# Altium integrated library TI Data Converters Analog to Digital Converter.IntLib: 2197 symbols (part 162 of 168)
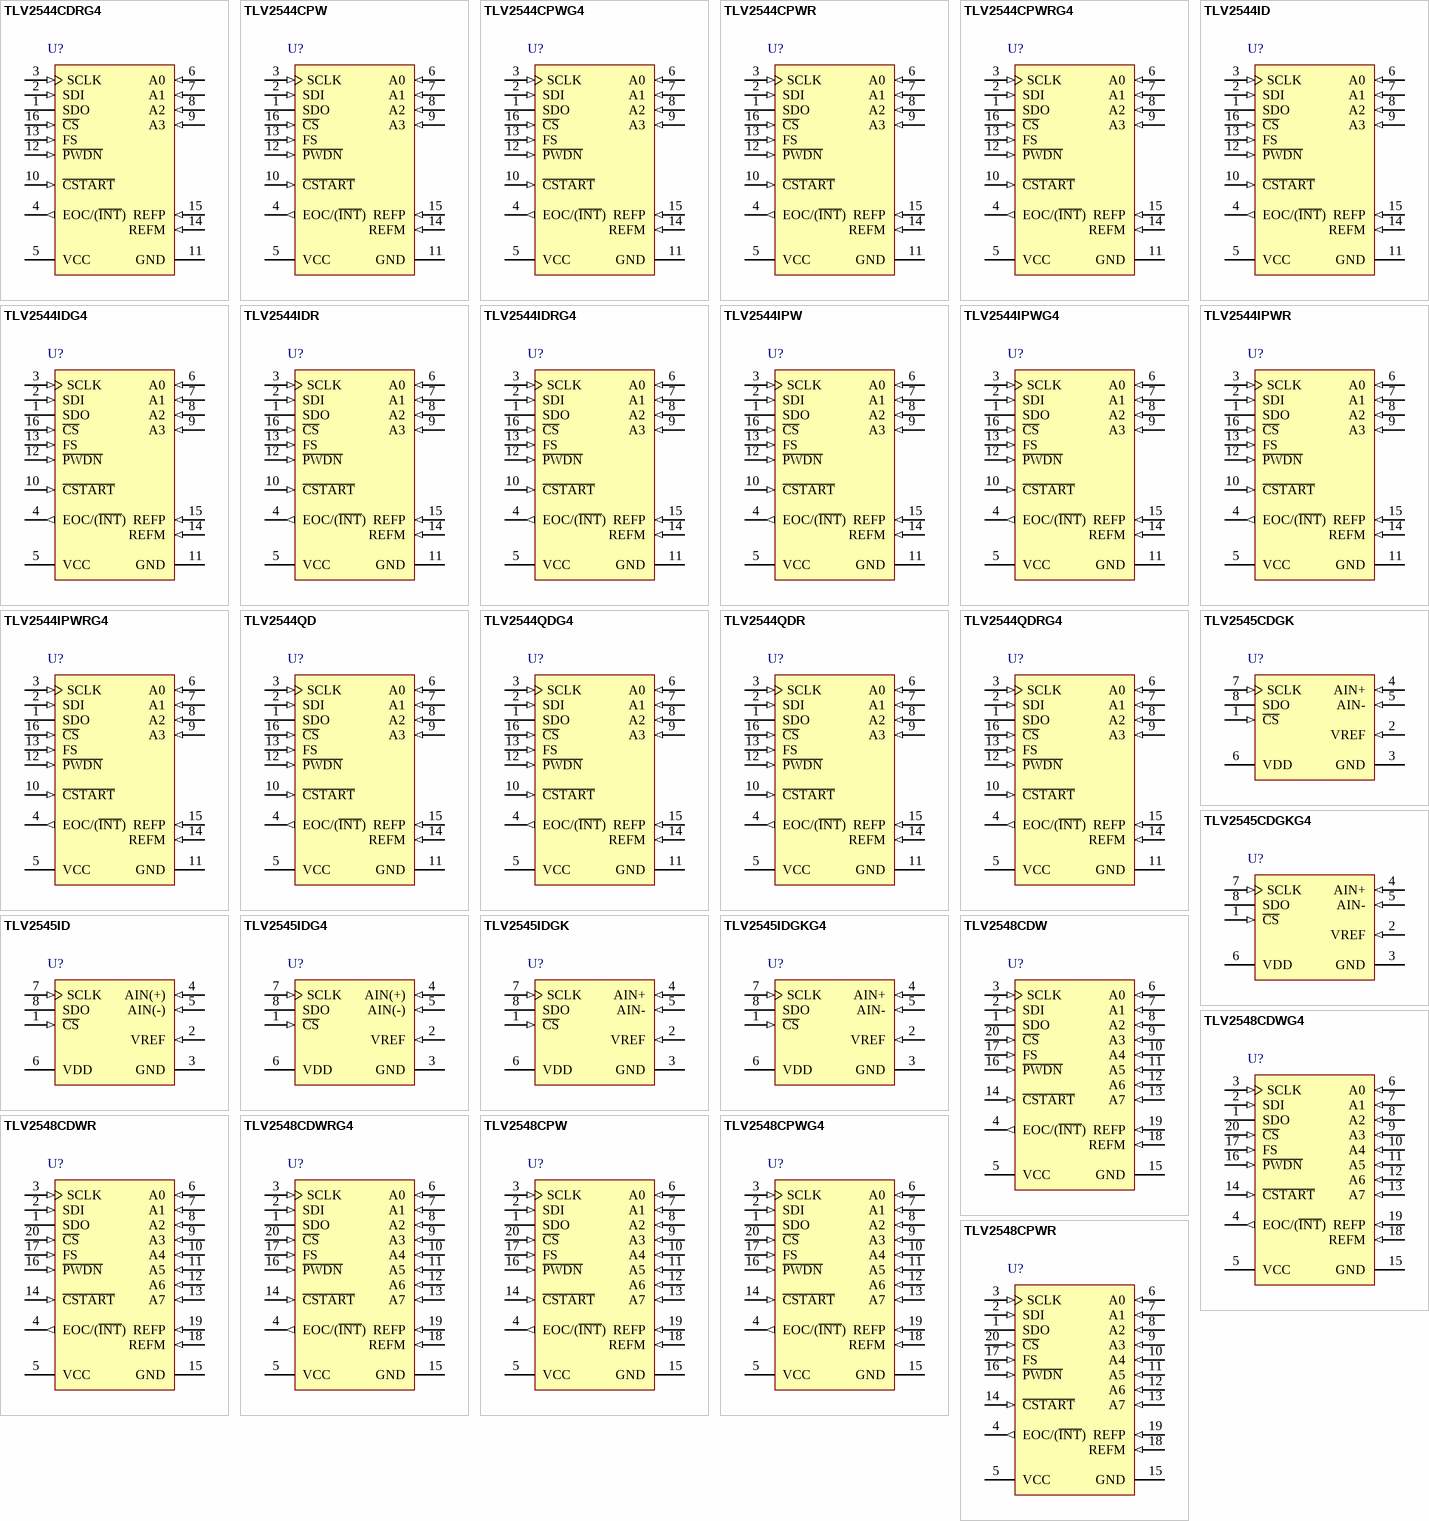
[diagram p287: symbols TLV2544CDRG4 to TLV2548CPWR]

## TLV2544CPWRG4
designator U?
12-Bit 200 kSPS ADC Serial Out, Auto Power Down (Software and Hardware), Low Power with 8 x FIFO with 4 Channel, 0 to 70 degC, 16-pin SOP (PW16), Green (RoHS & no Sb/Br); Manufacturer: Texas Instruments; PartNumber: TLV2544CPWRG4; # Input Channels: 4; Analog Voltage AV/DD(Max)(V): 5.5; Analog Voltage AV/DD(Min)(V): 2.7; Architecture: SAR; ENOB(Bits): 11.6; INL(Max)(+/-LSB): 1; Interface: Serial SPI; Resolution(Bits): 12; Sample Rate (max)(SPS): 200k; SFDR(dB): 84; SINAD(dB): 70; SubFamily: Precision ADC (<=10MSPS); DatasheetVersion: SLAS198E; PackageVersion: 4040064-4/G, 02/2011; PackageReference: PW16; PackageDescription: 16-Pin Plastic Small Outline, Body 5 x 4.4 mm, Pitch 0.65 mm; Supplier 1: Digi-Key; Supplier Part Number 1: ADS42B49IRGCR-ND; Supplier 2: Newark; Supplier Part Number 2: 55W5781; Supplier 3: Mouser; Supplier Part Number 3: 595-ADS42B49IRGCR; Digital Supply(Max)(V): 5.5; Digital Supply(Min)(V): 2.7; Eco-Plan: Green (RoHS & no Sb/Br); Mounting Technology: Surface Mount; Code_JEDEC: MO-153; ComponentLink1Description: Manufacturer URL; ComponentLink1URL: http://www.ti.com/; ComponentLink2Description: Datasheet; ComponentLink2URL: http://www.ti.com/general/docs/lit/getliterature.tsp?genericPartNumber=TLV2544&fileType=pdf; ComponentLink3Description: Package Specification; ComponentLink3URL: http://www.ti.com/lit/ml/mpds361/mpds361.pdf
footprint TI-PW16_N (SOP, 16-Leads, Body 5x4.4mm, Pitch 0.65mm, IPC Medium Density)
footprint TI-PW16_L (SOP, 16-Leads, Body 5x4.4mm, Pitch 0.65mm, IPC High Density)
footprint TI-PW16_M (SOP, 16-Leads, Body 5x4.4mm, Pitch 0.65mm, IPC Low Density)
pins: 1 SDO (hiz) "The 3-state serial output for the A/D conversion result.", 2 SDI (in) "Serial data input.", 3 SCLK (in) "Input serial clock.", 4 EOC/(~{INT}) (out) "End of conversion or interrupt to host processor.", 5 VCC (power) "Positive supply voltage.", 6 A0 (in) "Analog signal inputs.", 7 A1 (in) "Analog signal inputs.", 8 A2 (in) "Analog signal inputs.", 9 A3 (in) "Analog signal inputs.", 10 ~{CSTART} (in) "This terminal controls the start of sampling of the analog input from a selected multiplex channel.", 11 GND (power) "Ground return for the internal circuitry.", 12 ~{PWDN} (in) "Both analog and reference circuits are powered down when this pin is at logic zero.", 13 FS (in) "DSP frame sync input. Indication of the start of a serial data frame in or out of the device.", 14 REFM (in) "External reference input or internal reference decoupling.", 15 REFP (in) "External reference input or internal reference decoupling.", 16 ~{CS} (in) "Chip select."

## TLV2544ID
designator U?
12-Bit 200 kSPS ADC Serial Out, Auto Power Down (Software and Hardware), Low Power with 8 x FIFO with 4 Channel, -40 to 85 degC, 16-pin SOIC (D16), Green (RoHS & no Sb/Br); Manufacturer: Texas Instruments; PartNumber: TLV2544ID; # Input Channels: 4; Analog Voltage AV/DD(Max)(V): 5.5; Analog Voltage AV/DD(Min)(V): 2.7; Architecture: SAR; ENOB(Bits): 11.6; INL(Max)(+/-LSB): 1; Interface: Serial SPI; Resolution(Bits): 12; Sample Rate (max)(SPS): 200k; SFDR(dB): 84; SINAD(dB): 70; SubFamily: Precision ADC (<=10MSPS); DatasheetVersion: SLAS198E; PackageVersion: 4040047-6/M, 06/2011; PackageReference: D16; PackageDescription: 16-Pin Plastic Small Outline, Body 9.9 x 3.9 mm, Pitch 1.27 mm; Supplier 1: Digi-Key; Supplier Part Number 1: ADS4449IZCR-ND; Supplier 2: Newark; Supplier Part Number 2: 87W7681; Supplier 3: Mouser; Supplier Part Number 3: 595-ADS4449IZCR; Digital Supply(Max)(V): 5.5; Digital Supply(Min)(V): 2.7; Eco-Plan: Green (RoHS & no Sb/Br); Mounting Technology: Surface Mount; Code_JEDEC: MS-012; ComponentLink1Description: Manufacturer URL; ComponentLink1URL: http://www.ti.com/; ComponentLink2Description: Datasheet; ComponentLink2URL: http://www.ti.com/general/docs/lit/getliterature.tsp?genericPartNumber=TLV2544&fileType=pdf; ComponentLink3Description: Package Specification; ComponentLink3URL: http://www.ti.com/litv/pdf/mpds178g
footprint TI-D16_N (SOIC, 16-Leads, Body 9.9x3.9mm, Pitch 1.27mm, IPC Medium Density)
footprint TI-D16_L (SOIC, 16-Leads, Body 9.9x3.9mm, Pitch 1.27mm, IPC High Density)
footprint TI-D16_M (SOIC, 16-Leads, Body 9.9x3.9mm, Pitch 1.27mm, IPC Low Density)
pins: 1 SDO (hiz) "The 3-state serial output for the A/D conversion result.", 2 SDI (in) "Serial data input.", 3 SCLK (in) "Input serial clock.", 4 EOC/(~{INT}) (out) "End of conversion or interrupt to host processor.", 5 VCC (power) "Positive supply voltage.", 6 A0 (in) "Analog signal inputs.", 7 A1 (in) "Analog signal inputs.", 8 A2 (in) "Analog signal inputs.", 9 A3 (in) "Analog signal inputs.", 10 ~{CSTART} (in) "This terminal controls the start of sampling of the analog input from a selected multiplex channel.", 11 GND (power) "Ground return for the internal circuitry.", 12 ~{PWDN} (in) "Both analog and reference circuits are powered down when this pin is at logic zero.", 13 FS (in) "DSP frame sync input. Indication of the start of a serial data frame in or out of the device.", 14 REFM (in) "External reference input or internal reference decoupling.", 15 REFP (in) "External reference input or internal reference decoupling.", 16 ~{CS} (in) "Chip select."

## TLV2544IDG4
designator U?
12-Bit 200 kSPS ADC Serial Out, Auto Power Down (Software and Hardware), Low Power with 8 x FIFO with 4 Channel, -40 to 85 degC, 16-pin SOIC (D16), Green (RoHS & no Sb/Br); Manufacturer: Texas Instruments; PartNumber: TLV2544IDG4; # Input Channels: 4; Analog Voltage AV/DD(Max)(V): 5.5; Analog Voltage AV/DD(Min)(V): 2.7; Architecture: SAR; ENOB(Bits): 11.6; INL(Max)(+/-LSB): 1; Interface: Serial SPI; Resolution(Bits): 12; Sample Rate (max)(SPS): 200k; SFDR(dB): 84; SINAD(dB): 70; SubFamily: Precision ADC (<=10MSPS); DatasheetVersion: SLAS198E; PackageVersion: 4040047-6/M, 06/2011; PackageReference: D16; PackageDescription: 16-Pin Plastic Small Outline, Body 9.9 x 3.9 mm, Pitch 1.27 mm; Supplier 1: Newark; Supplier Part Number 1: 94W7370; Supplier 2: Mouser; Supplier Part Number 2: 595-ADS62P19IRGCR; Digital Supply(Max)(V): 5.5; Digital Supply(Min)(V): 2.7; Eco-Plan: Green (RoHS & no Sb/Br); Mounting Technology: Surface Mount; Code_JEDEC: MS-012; ComponentLink1Description: Manufacturer URL; ComponentLink1URL: http://www.ti.com/; ComponentLink2Description: Datasheet; ComponentLink2URL: http://www.ti.com/general/docs/lit/getliterature.tsp?genericPartNumber=TLV2544&fileType=pdf; ComponentLink3Description: Package Specification; ComponentLink3URL: http://www.ti.com/litv/pdf/mpds178g
footprint TI-D16_N (SOIC, 16-Leads, Body 9.9x3.9mm, Pitch 1.27mm, IPC Medium Density)
footprint TI-D16_L (SOIC, 16-Leads, Body 9.9x3.9mm, Pitch 1.27mm, IPC High Density)
footprint TI-D16_M (SOIC, 16-Leads, Body 9.9x3.9mm, Pitch 1.27mm, IPC Low Density)
pins: 1 SDO (hiz) "The 3-state serial output for the A/D conversion result.", 2 SDI (in) "Serial data input.", 3 SCLK (in) "Input serial clock.", 4 EOC/(~{INT}) (out) "End of conversion or interrupt to host processor.", 5 VCC (power) "Positive supply voltage.", 6 A0 (in) "Analog signal inputs.", 7 A1 (in) "Analog signal inputs.", 8 A2 (in) "Analog signal inputs.", 9 A3 (in) "Analog signal inputs.", 10 ~{CSTART} (in) "This terminal controls the start of sampling of the analog input from a selected multiplex channel.", 11 GND (power) "Ground return for the internal circuitry.", 12 ~{PWDN} (in) "Both analog and reference circuits are powered down when this pin is at logic zero.", 13 FS (in) "DSP frame sync input. Indication of the start of a serial data frame in or out of the device.", 14 REFM (in) "External reference input or internal reference decoupling.", 15 REFP (in) "External reference input or internal reference decoupling.", 16 ~{CS} (in) "Chip select."

## TLV2544IDR
designator U?
12-Bit 200 kSPS ADC Serial Out, Auto Power Down (Software and Hardware), Low Power with 8 x FIFO with 4 Channel, -40 to 85 degC, 16-pin SOIC (D16), Green (RoHS & no Sb/Br); Manufacturer: Texas Instruments; PartNumber: TLV2544IDR; # Input Channels: 4; Analog Voltage AV/DD(Max)(V): 5.5; Analog Voltage AV/DD(Min)(V): 2.7; Architecture: SAR; ENOB(Bits): 11.6; INL(Max)(+/-LSB): 1; Interface: Serial SPI; Resolution(Bits): 12; Sample Rate (max)(SPS): 200k; SFDR(dB): 84; SINAD(dB): 70; SubFamily: Precision ADC (<=10MSPS); DatasheetVersion: SLAS198E; PackageVersion: 4040047-6/M, 06/2011; PackageReference: D16; PackageDescription: 16-Pin Plastic Small Outline, Body 9.9 x 3.9 mm, Pitch 1.27 mm; Supplier 1: Digi-Key; Supplier Part Number 1: ADS62P19IRGCT-ND; Supplier 2: Newark; Supplier Part Number 2: 94W7371; Supplier 3: Mouser; Supplier Part Number 3: 595-ADS62P19IRGCT; Digital Supply(Max)(V): 5.5; Digital Supply(Min)(V): 2.7; Eco-Plan: Green (RoHS & no Sb/Br); Mounting Technology: Surface Mount; Code_JEDEC: MS-012; ComponentLink1Description: Manufacturer URL; ComponentLink1URL: http://www.ti.com/; ComponentLink2Description: Datasheet; ComponentLink2URL: http://www.ti.com/general/docs/lit/getliterature.tsp?genericPartNumber=TLV2544&fileType=pdf; ComponentLink3Description: Package Specification; ComponentLink3URL: http://www.ti.com/litv/pdf/mpds178g
footprint TI-D16_N (SOIC, 16-Leads, Body 9.9x3.9mm, Pitch 1.27mm, IPC Medium Density)
footprint TI-D16_L (SOIC, 16-Leads, Body 9.9x3.9mm, Pitch 1.27mm, IPC High Density)
footprint TI-D16_M (SOIC, 16-Leads, Body 9.9x3.9mm, Pitch 1.27mm, IPC Low Density)
pins: 1 SDO (hiz) "The 3-state serial output for the A/D conversion result.", 2 SDI (in) "Serial data input.", 3 SCLK (in) "Input serial clock.", 4 EOC/(~{INT}) (out) "End of conversion or interrupt to host processor.", 5 VCC (power) "Positive supply voltage.", 6 A0 (in) "Analog signal inputs.", 7 A1 (in) "Analog signal inputs.", 8 A2 (in) "Analog signal inputs.", 9 A3 (in) "Analog signal inputs.", 10 ~{CSTART} (in) "This terminal controls the start of sampling of the analog input from a selected multiplex channel.", 11 GND (power) "Ground return for the internal circuitry.", 12 ~{PWDN} (in) "Both analog and reference circuits are powered down when this pin is at logic zero.", 13 FS (in) "DSP frame sync input. Indication of the start of a serial data frame in or out of the device.", 14 REFM (in) "External reference input or internal reference decoupling.", 15 REFP (in) "External reference input or internal reference decoupling.", 16 ~{CS} (in) "Chip select."

## TLV2544IDRG4
designator U?
12-Bit 200 kSPS ADC Serial Out, Auto Power Down (Software and Hardware), Low Power with 8 x FIFO with 4 Channel, -40 to 85 degC, 16-pin SOIC (D16), Green (RoHS & no Sb/Br); Manufacturer: Texas Instruments; PartNumber: TLV2544IDRG4; # Input Channels: 4; Analog Voltage AV/DD(Max)(V): 5.5; Analog Voltage AV/DD(Min)(V): 2.7; Architecture: SAR; ENOB(Bits): 11.6; INL(Max)(+/-LSB): 1; Interface: Serial SPI; Resolution(Bits): 12; Sample Rate (max)(SPS): 200k; SFDR(dB): 84; SINAD(dB): 70; SubFamily: Precision ADC (<=10MSPS); DatasheetVersion: SLAS198E; PackageVersion: 4040047-6/M, 06/2011; PackageReference: D16; PackageDescription: 16-Pin Plastic Small Outline, Body 9.9 x 3.9 mm, Pitch 1.27 mm; Supplier 1: Digi-Key; Supplier Part Number 1: ADC104S021QIMMX/NOPB-ND; Supplier 2: Newark; Supplier Part Number 2: 05W7235; Supplier 3: Mouser; Supplier Part Number 3: 595-C104S021QIMMXNPB; Supplier 4: Mouser; Supplier Part Number 4: N/A; Digital Supply(Max)(V): 5.5; Digital Supply(Min)(V): 2.7; Eco-Plan: Green (RoHS & no Sb/Br); Mounting Technology: Surface Mount; Code_JEDEC: MS-012; ComponentLink1Description: Manufacturer URL; ComponentLink1URL: http://www.ti.com/; ComponentLink2Description: Datasheet; ComponentLink2URL: http://www.ti.com/general/docs/lit/getliterature.tsp?genericPartNumber=TLV2544&fileType=pdf; ComponentLink3Description: Package Specification; ComponentLink3URL: http://www.ti.com/litv/pdf/mpds178g
footprint TI-D16_N (SOIC, 16-Leads, Body 9.9x3.9mm, Pitch 1.27mm, IPC Medium Density)
footprint TI-D16_L (SOIC, 16-Leads, Body 9.9x3.9mm, Pitch 1.27mm, IPC High Density)
footprint TI-D16_M (SOIC, 16-Leads, Body 9.9x3.9mm, Pitch 1.27mm, IPC Low Density)
pins: 1 SDO (hiz) "The 3-state serial output for the A/D conversion result.", 2 SDI (in) "Serial data input.", 3 SCLK (in) "Input serial clock.", 4 EOC/(~{INT}) (out) "End of conversion or interrupt to host processor.", 5 VCC (power) "Positive supply voltage.", 6 A0 (in) "Analog signal inputs.", 7 A1 (in) "Analog signal inputs.", 8 A2 (in) "Analog signal inputs.", 9 A3 (in) "Analog signal inputs.", 10 ~{CSTART} (in) "This terminal controls the start of sampling of the analog input from a selected multiplex channel.", 11 GND (power) "Ground return for the internal circuitry.", 12 ~{PWDN} (in) "Both analog and reference circuits are powered down when this pin is at logic zero.", 13 FS (in) "DSP frame sync input. Indication of the start of a serial data frame in or out of the device.", 14 REFM (in) "External reference input or internal reference decoupling.", 15 REFP (in) "External reference input or internal reference decoupling.", 16 ~{CS} (in) "Chip select."

## TLV2544IPW
designator U?
12-Bit 200 kSPS ADC Serial Out, Auto Power Down (Software and Hardware), Low Power with 8 x FIFO with 4 Channel, -40 to 85 degC, 16-pin SOP (PW16), Green (RoHS & no Sb/Br); Manufacturer: Texas Instruments; PartNumber: TLV2544IPW; # Input Channels: 4; Analog Voltage AV/DD(Max)(V): 5.5; Analog Voltage AV/DD(Min)(V): 2.7; Architecture: SAR; ENOB(Bits): 11.6; INL(Max)(+/-LSB): 1; Interface: Serial SPI; Resolution(Bits): 12; Sample Rate (max)(SPS): 200k; SFDR(dB): 84; SINAD(dB): 70; SubFamily: Precision ADC (<=10MSPS); DatasheetVersion: SLAS198E; PackageVersion: 4040064-4/G, 02/2011; PackageReference: PW16; PackageDescription: 16-Pin Plastic Small Outline, Body 5 x 4.4 mm, Pitch 0.65 mm; Digital Supply(Max)(V): 5.5; Digital Supply(Min)(V): 2.7; Eco-Plan: Green (RoHS & no Sb/Br); Mounting Technology: Surface Mount; Code_JEDEC: MO-153; ComponentLink1Description: Manufacturer URL; ComponentLink1URL: http://www.ti.com/; ComponentLink2Description: Datasheet; ComponentLink2URL: http://www.ti.com/general/docs/lit/getliterature.tsp?genericPartNumber=TLV2544&fileType=pdf; ComponentLink3Description: Package Specification; ComponentLink3URL: http://www.ti.com/lit/ml/mpds361/mpds361.pdf
footprint TI-PW16_N (SOP, 16-Leads, Body 5x4.4mm, Pitch 0.65mm, IPC Medium Density)
footprint TI-PW16_L (SOP, 16-Leads, Body 5x4.4mm, Pitch 0.65mm, IPC High Density)
footprint TI-PW16_M (SOP, 16-Leads, Body 5x4.4mm, Pitch 0.65mm, IPC Low Density)
pins: 1 SDO (hiz) "The 3-state serial output for the A/D conversion result.", 2 SDI (in) "Serial data input.", 3 SCLK (in) "Input serial clock.", 4 EOC/(~{INT}) (out) "End of conversion or interrupt to host processor.", 5 VCC (power) "Positive supply voltage.", 6 A0 (in) "Analog signal inputs.", 7 A1 (in) "Analog signal inputs.", 8 A2 (in) "Analog signal inputs.", 9 A3 (in) "Analog signal inputs.", 10 ~{CSTART} (in) "This terminal controls the start of sampling of the analog input from a selected multiplex channel.", 11 GND (power) "Ground return for the internal circuitry.", 12 ~{PWDN} (in) "Both analog and reference circuits are powered down when this pin is at logic zero.", 13 FS (in) "DSP frame sync input. Indication of the start of a serial data frame in or out of the device.", 14 REFM (in) "External reference input or internal reference decoupling.", 15 REFP (in) "External reference input or internal reference decoupling.", 16 ~{CS} (in) "Chip select."

## TLV2544IPWG4
designator U?
12-Bit 200 kSPS ADC Serial Out, Auto Power Down (Software and Hardware), Low Power with 8 x FIFO with 4 Channel, -40 to 85 degC, 16-pin SOP (PW16), Green (RoHS & no Sb/Br); Manufacturer: Texas Instruments; PartNumber: TLV2544IPWG4; # Input Channels: 4; Analog Voltage AV/DD(Max)(V): 5.5; Analog Voltage AV/DD(Min)(V): 2.7; Architecture: SAR; ENOB(Bits): 11.6; INL(Max)(+/-LSB): 1; Interface: Serial SPI; Resolution(Bits): 12; Sample Rate (max)(SPS): 200k; SFDR(dB): 84; SINAD(dB): 70; SubFamily: Precision ADC (<=10MSPS); DatasheetVersion: SLAS198E; PackageVersion: 4040064-4/G, 02/2011; PackageReference: PW16; PackageDescription: 16-Pin Plastic Small Outline, Body 5 x 4.4 mm, Pitch 0.65 mm; Supplier 1: Digi-Key; Supplier Part Number 1: 296-34885-2-ND; Supplier 2: Digi-Key; Supplier Part Number 2: 296-34885-1-ND; Supplier 3: Digi-Key; Supplier Part Number 3: 296-34885-6-ND; Supplier 4: Newark; Supplier Part Number 4: 27W9300; Supplier 5: Mouser; Supplier Part Number 5: 595-ADS131E04IPAGR; Digital Supply(Max)(V): 5.5; Digital Supply(Min)(V): 2.7; Eco-Plan: Green (RoHS & no Sb/Br); Mounting Technology: Surface Mount; Code_JEDEC: MO-153; ComponentLink1Description: Manufacturer URL; ComponentLink1URL: http://www.ti.com/; ComponentLink2Description: Datasheet; ComponentLink2URL: http://www.ti.com/general/docs/lit/getliterature.tsp?genericPartNumber=TLV2544&fileType=pdf; ComponentLink3Description: Package Specification; ComponentLink3URL: http://www.ti.com/lit/ml/mpds361/mpds361.pdf
footprint TI-PW16_N (SOP, 16-Leads, Body 5x4.4mm, Pitch 0.65mm, IPC Medium Density)
footprint TI-PW16_L (SOP, 16-Leads, Body 5x4.4mm, Pitch 0.65mm, IPC High Density)
footprint TI-PW16_M (SOP, 16-Leads, Body 5x4.4mm, Pitch 0.65mm, IPC Low Density)
pins: 1 SDO (hiz) "The 3-state serial output for the A/D conversion result.", 2 SDI (in) "Serial data input.", 3 SCLK (in) "Input serial clock.", 4 EOC/(~{INT}) (out) "End of conversion or interrupt to host processor.", 5 VCC (power) "Positive supply voltage.", 6 A0 (in) "Analog signal inputs.", 7 A1 (in) "Analog signal inputs.", 8 A2 (in) "Analog signal inputs.", 9 A3 (in) "Analog signal inputs.", 10 ~{CSTART} (in) "This terminal controls the start of sampling of the analog input from a selected multiplex channel.", 11 GND (power) "Ground return for the internal circuitry.", 12 ~{PWDN} (in) "Both analog and reference circuits are powered down when this pin is at logic zero.", 13 FS (in) "DSP frame sync input. Indication of the start of a serial data frame in or out of the device.", 14 REFM (in) "External reference input or internal reference decoupling.", 15 REFP (in) "External reference input or internal reference decoupling.", 16 ~{CS} (in) "Chip select."

## TLV2544IPWR
designator U?
12-Bit 200 kSPS ADC Serial Out, Auto Power Down (Software and Hardware), Low Power with 8 x FIFO with 4 Channel, -40 to 85 degC, 16-pin SOP (PW16), Green (RoHS & no Sb/Br); Manufacturer: Texas Instruments; PartNumber: TLV2544IPWR; # Input Channels: 4; Analog Voltage AV/DD(Max)(V): 5.5; Analog Voltage AV/DD(Min)(V): 2.7; Architecture: SAR; ENOB(Bits): 11.6; INL(Max)(+/-LSB): 1; Interface: Serial SPI; Resolution(Bits): 12; Sample Rate (max)(SPS): 200k; SFDR(dB): 84; SINAD(dB): 70; SubFamily: Precision ADC (<=10MSPS); DatasheetVersion: SLAS198E; PackageVersion: 4040064-4/G, 02/2011; PackageReference: PW16; PackageDescription: 16-Pin Plastic Small Outline, Body 5 x 4.4 mm, Pitch 0.65 mm; Supplier 1: Digi-Key; Supplier Part Number 1: ADS8509HDB-ND; Supplier 2: Newark; Supplier Part Number 2: 55W5802; Supplier 3: Mouser; Supplier Part Number 3: 595-ADS8509HDB; Digital Supply(Max)(V): 5.5; Digital Supply(Min)(V): 2.7; Eco-Plan: Green (RoHS & no Sb/Br); Mounting Technology: Surface Mount; Code_JEDEC: MO-153; ComponentLink1Description: Manufacturer URL; ComponentLink1URL: http://www.ti.com/; ComponentLink2Description: Datasheet; ComponentLink2URL: http://www.ti.com/general/docs/lit/getliterature.tsp?genericPartNumber=TLV2544&fileType=pdf; ComponentLink3Description: Package Specification; ComponentLink3URL: http://www.ti.com/lit/ml/mpds361/mpds361.pdf
footprint TI-PW16_N (SOP, 16-Leads, Body 5x4.4mm, Pitch 0.65mm, IPC Medium Density)
footprint TI-PW16_L (SOP, 16-Leads, Body 5x4.4mm, Pitch 0.65mm, IPC High Density)
footprint TI-PW16_M (SOP, 16-Leads, Body 5x4.4mm, Pitch 0.65mm, IPC Low Density)
pins: 1 SDO (hiz) "The 3-state serial output for the A/D conversion result.", 2 SDI (in) "Serial data input.", 3 SCLK (in) "Input serial clock.", 4 EOC/(~{INT}) (out) "End of conversion or interrupt to host processor.", 5 VCC (power) "Positive supply voltage.", 6 A0 (in) "Analog signal inputs.", 7 A1 (in) "Analog signal inputs.", 8 A2 (in) "Analog signal inputs.", 9 A3 (in) "Analog signal inputs.", 10 ~{CSTART} (in) "This terminal controls the start of sampling of the analog input from a selected multiplex channel.", 11 GND (power) "Ground return for the internal circuitry.", 12 ~{PWDN} (in) "Both analog and reference circuits are powered down when this pin is at logic zero.", 13 FS (in) "DSP frame sync input. Indication of the start of a serial data frame in or out of the device.", 14 REFM (in) "External reference input or internal reference decoupling.", 15 REFP (in) "External reference input or internal reference decoupling.", 16 ~{CS} (in) "Chip select."

## TLV2544IPWRG4
designator U?
12-Bit 200 kSPS ADC Serial Out, Auto Power Down (Software and Hardware), Low Power with 8 x FIFO with 4 Channel, -40 to 85 degC, 16-pin SOP (PW16), Green (RoHS & no Sb/Br); Manufacturer: Texas Instruments; PartNumber: TLV2544IPWRG4; # Input Channels: 4; Analog Voltage AV/DD(Max)(V): 5.5; Analog Voltage AV/DD(Min)(V): 2.7; Architecture: SAR; ENOB(Bits): 11.6; INL(Max)(+/-LSB): 1; Interface: Serial SPI; Resolution(Bits): 12; Sample Rate (max)(SPS): 200k; SFDR(dB): 84; SINAD(dB): 70; SubFamily: Precision ADC (<=10MSPS); DatasheetVersion: SLAS198E; PackageVersion: 4040064-4/G, 02/2011; PackageReference: PW16; PackageDescription: 16-Pin Plastic Small Outline, Body 5 x 4.4 mm, Pitch 0.65 mm; Digital Supply(Max)(V): 5.5; Digital Supply(Min)(V): 2.7; Eco-Plan: Green (RoHS & no Sb/Br); Mounting Technology: Surface Mount; Code_JEDEC: MO-153; ComponentLink1Description: Manufacturer URL; ComponentLink1URL: http://www.ti.com/; ComponentLink2Description: Datasheet; ComponentLink2URL: http://www.ti.com/general/docs/lit/getliterature.tsp?genericPartNumber=TLV2544&fileType=pdf; ComponentLink3Description: Package Specification; ComponentLink3URL: http://www.ti.com/lit/ml/mpds361/mpds361.pdf
footprint TI-PW16_N (SOP, 16-Leads, Body 5x4.4mm, Pitch 0.65mm, IPC Medium Density)
footprint TI-PW16_L (SOP, 16-Leads, Body 5x4.4mm, Pitch 0.65mm, IPC High Density)
footprint TI-PW16_M (SOP, 16-Leads, Body 5x4.4mm, Pitch 0.65mm, IPC Low Density)
pins: 1 SDO (hiz) "The 3-state serial output for the A/D conversion result.", 2 SDI (in) "Serial data input.", 3 SCLK (in) "Input serial clock.", 4 EOC/(~{INT}) (out) "End of conversion or interrupt to host processor.", 5 VCC (power) "Positive supply voltage.", 6 A0 (in) "Analog signal inputs.", 7 A1 (in) "Analog signal inputs.", 8 A2 (in) "Analog signal inputs.", 9 A3 (in) "Analog signal inputs.", 10 ~{CSTART} (in) "This terminal controls the start of sampling of the analog input from a selected multiplex channel.", 11 GND (power) "Ground return for the internal circuitry.", 12 ~{PWDN} (in) "Both analog and reference circuits are powered down when this pin is at logic zero.", 13 FS (in) "DSP frame sync input. Indication of the start of a serial data frame in or out of the device.", 14 REFM (in) "External reference input or internal reference decoupling.", 15 REFP (in) "External reference input or internal reference decoupling.", 16 ~{CS} (in) "Chip select."

## TLV2544QD
designator U?
Automotive Catalog 12-Bit 200 kSPS ADC Serial Out, Auto Power Down (Software and Hardware), Low Power, -40 to 125 degC, 16-pin SOIC (D16), Green (RoHS & no Sb/Br); Manufacturer: Texas Instruments; PartNumber: TLV2544QD; # Input Channels: 4; Analog Voltage AV/DD(Max)(V): 5.5; Analog Voltage AV/DD(Min)(V): 3; Architecture: SAR; ENOB(Bits): 11.6; INL(Max)(+/-LSB): 1.2; Interface: Serial SPI; Resolution(Bits): 12; Sample Rate (max)(SPS): 200k; SFDR(dB): 84; SINAD(dB): 71; SubFamily: High Speed ADC (>10MSPS); DatasheetVersion: SGLS119F; PackageVersion: 4040047-6/M, 06/2011; PackageReference: D16; PackageDescription: 16-Pin Plastic Small Outline, Body 9.9 x 3.9 mm, Pitch 1.27 mm; Supplier 1: Digi-Key; Supplier Part Number 1: ADS5295PFPR-ND; Supplier 2: Newark; Supplier Part Number 2: 55W5788; Supplier 3: Mouser; Supplier Part Number 3: 595-ADS5295PFPR; Digital Supply(Max)(V): 5.5; Digital Supply(Min)(V): 3; Eco-Plan: Green (RoHS & no Sb/Br); Mounting Technology: Surface Mount; Code_JEDEC: MS-012; ComponentLink1Description: Manufacturer URL; ComponentLink1URL: http://www.ti.com/; ComponentLink2Description: Datasheet; ComponentLink2URL: http://www.ti.com/general/docs/lit/getliterature.tsp?genericPartNumber=TLV2544Q&fileType=pdf; ComponentLink3Description: Package Specification; ComponentLink3URL: http://www.ti.com/litv/pdf/mpds178g
footprint TI-D16_N (SOIC, 16-Leads, Body 9.9x3.9mm, Pitch 1.27mm, IPC Medium Density)
footprint TI-D16_L (SOIC, 16-Leads, Body 9.9x3.9mm, Pitch 1.27mm, IPC High Density)
footprint TI-D16_M (SOIC, 16-Leads, Body 9.9x3.9mm, Pitch 1.27mm, IPC Low Density)
pins: 1 SDO (hiz) "The 3-state serial output for the A/D conversion result.", 2 SDI (in) "Serial data input.", 3 SCLK (in) "Input serial clock.", 4 EOC/(~{INT}) (out) "End of conversion or interrupt to host processor.", 5 VCC (power) "Positive supply voltage.", 6 A0 (in) "Analog signal inputs.", 7 A1 (in) "Analog signal inputs.", 8 A2 (in) "Analog signal inputs.", 9 A3 (in) "Analog signal inputs.", 10 ~{CSTART} (in) "This terminal controls the start of sampling of the analog input from a selected multiplex channel.", 11 GND (power) "Ground return for the internal circuitry.", 12 ~{PWDN} (in) "Both analog and reference circuits are powered down when this pin is at logic zero.", 13 FS (in) "DSP frame sync input. Indication of the start of a serial data frame in or out of the device.", 14 REFM (in) "External reference input or internal reference decoupling.", 15 REFP (in) "External reference input or internal reference decoupling.", 16 ~{CS} (in) "Chip select."

## TLV2544QDG4
designator U?
Automotive Catalog 12-Bit 200 kSPS ADC Serial Out, Auto Power Down (Software and Hardware), Low Power, -40 to 125 degC, 16-pin SOIC (D16), Green (RoHS & no Sb/Br); Manufacturer: Texas Instruments; PartNumber: TLV2544QDG4; # Input Channels: 4; Analog Voltage AV/DD(Max)(V): 5.5; Analog Voltage AV/DD(Min)(V): 3; Architecture: SAR; ENOB(Bits): 11.6; INL(Max)(+/-LSB): 1.2; Interface: Serial SPI; Resolution(Bits): 12; Sample Rate (max)(SPS): 200k; SFDR(dB): 84; SINAD(dB): 71; SubFamily: High Speed ADC (>10MSPS); DatasheetVersion: SGLS119F; PackageVersion: 4040047-6/M, 06/2011; PackageReference: D16; PackageDescription: 16-Pin Plastic Small Outline, Body 9.9 x 3.9 mm, Pitch 1.27 mm; Supplier 1: Digi-Key; Supplier Part Number 1: ADC104S021QIMM/NOPB-ND; Supplier 2: Newark; Supplier Part Number 2: 05W7234; Supplier 3: Mouser; Supplier Part Number 3: 595-DC104S021QIMMNPB; Supplier 4: Mouser; Supplier Part Number 4: N/A; Digital Supply(Max)(V): 5.5; Digital Supply(Min)(V): 3; Eco-Plan: Green (RoHS & no Sb/Br); Mounting Technology: Surface Mount; Code_JEDEC: MS-012; ComponentLink1Description: Manufacturer URL; ComponentLink1URL: http://www.ti.com/; ComponentLink2Description: Datasheet; ComponentLink2URL: http://www.ti.com/general/docs/lit/getliterature.tsp?genericPartNumber=TLV2544Q&fileType=pdf; ComponentLink3Description: Package Specification; ComponentLink3URL: http://www.ti.com/litv/pdf/mpds178g
footprint TI-D16_N (SOIC, 16-Leads, Body 9.9x3.9mm, Pitch 1.27mm, IPC Medium Density)
footprint TI-D16_L (SOIC, 16-Leads, Body 9.9x3.9mm, Pitch 1.27mm, IPC High Density)
footprint TI-D16_M (SOIC, 16-Leads, Body 9.9x3.9mm, Pitch 1.27mm, IPC Low Density)
pins: 1 SDO (hiz) "The 3-state serial output for the A/D conversion result.", 2 SDI (in) "Serial data input.", 3 SCLK (in) "Input serial clock.", 4 EOC/(~{INT}) (out) "End of conversion or interrupt to host processor.", 5 VCC (power) "Positive supply voltage.", 6 A0 (in) "Analog signal inputs.", 7 A1 (in) "Analog signal inputs.", 8 A2 (in) "Analog signal inputs.", 9 A3 (in) "Analog signal inputs.", 10 ~{CSTART} (in) "This terminal controls the start of sampling of the analog input from a selected multiplex channel.", 11 GND (power) "Ground return for the internal circuitry.", 12 ~{PWDN} (in) "Both analog and reference circuits are powered down when this pin is at logic zero.", 13 FS (in) "DSP frame sync input. Indication of the start of a serial data frame in or out of the device.", 14 REFM (in) "External reference input or internal reference decoupling.", 15 REFP (in) "External reference input or internal reference decoupling.", 16 ~{CS} (in) "Chip select."

## TLV2544QDR
designator U?
Automotive Catalog 12-Bit 200 kSPS ADC Serial Out, Auto Power Down (Software and Hardware), Low Power, -40 to 125 degC, 16-pin SOIC (D16), Green (RoHS & no Sb/Br); Manufacturer: Texas Instruments; PartNumber: TLV2544QDR; # Input Channels: 4; Analog Voltage AV/DD(Max)(V): 5.5; Analog Voltage AV/DD(Min)(V): 3; Architecture: SAR; ENOB(Bits): 11.6; INL(Max)(+/-LSB): 1.2; Interface: Serial SPI; Resolution(Bits): 12; Sample Rate (max)(SPS): 200k; SFDR(dB): 84; SINAD(dB): 71; SubFamily: High Speed ADC (>10MSPS); DatasheetVersion: SGLS119F; PackageVersion: 4040047-6/M, 06/2011; PackageReference: D16; PackageDescription: 16-Pin Plastic Small Outline, Body 9.9 x 3.9 mm, Pitch 1.27 mm; Supplier 1: Digi-Key; Supplier Part Number 1: ADS5295PFPT-ND; Supplier 2: Newark; Supplier Part Number 2: 55W5789; Supplier 3: Mouser; Supplier Part Number 3: 595-ADS5295PFPT; Digital Supply(Max)(V): 5.5; Digital Supply(Min)(V): 3; Eco-Plan: Green (RoHS & no Sb/Br); Mounting Technology: Surface Mount; Code_JEDEC: MS-012; ComponentLink1Description: Manufacturer URL; ComponentLink1URL: http://www.ti.com/; ComponentLink2Description: Datasheet; ComponentLink2URL: http://www.ti.com/general/docs/lit/getliterature.tsp?genericPartNumber=TLV2544Q&fileType=pdf; ComponentLink3Description: Package Specification; ComponentLink3URL: http://www.ti.com/litv/pdf/mpds178g
footprint TI-D16_N (SOIC, 16-Leads, Body 9.9x3.9mm, Pitch 1.27mm, IPC Medium Density)
footprint TI-D16_L (SOIC, 16-Leads, Body 9.9x3.9mm, Pitch 1.27mm, IPC High Density)
footprint TI-D16_M (SOIC, 16-Leads, Body 9.9x3.9mm, Pitch 1.27mm, IPC Low Density)
pins: 1 SDO (hiz) "The 3-state serial output for the A/D conversion result.", 2 SDI (in) "Serial data input.", 3 SCLK (in) "Input serial clock.", 4 EOC/(~{INT}) (out) "End of conversion or interrupt to host processor.", 5 VCC (power) "Positive supply voltage.", 6 A0 (in) "Analog signal inputs.", 7 A1 (in) "Analog signal inputs.", 8 A2 (in) "Analog signal inputs.", 9 A3 (in) "Analog signal inputs.", 10 ~{CSTART} (in) "This terminal controls the start of sampling of the analog input from a selected multiplex channel.", 11 GND (power) "Ground return for the internal circuitry.", 12 ~{PWDN} (in) "Both analog and reference circuits are powered down when this pin is at logic zero.", 13 FS (in) "DSP frame sync input. Indication of the start of a serial data frame in or out of the device.", 14 REFM (in) "External reference input or internal reference decoupling.", 15 REFP (in) "External reference input or internal reference decoupling.", 16 ~{CS} (in) "Chip select."

## TLV2544QDRG4
designator U?
Automotive Catalog 12-Bit 200 kSPS ADC Serial Out, Auto Power Down (Software and Hardware), Low Power, -40 to 125 degC, 16-pin SOIC (D16), Green (RoHS & no Sb/Br); Manufacturer: Texas Instruments; PartNumber: TLV2544QDRG4; # Input Channels: 4; Analog Voltage AV/DD(Max)(V): 5.5; Analog Voltage AV/DD(Min)(V): 3; Architecture: SAR; ENOB(Bits): 11.6; INL(Max)(+/-LSB): 1.2; Interface: Serial SPI; Resolution(Bits): 12; Sample Rate (max)(SPS): 200k; SFDR(dB): 84; SINAD(dB): 71; SubFamily: High Speed ADC (>10MSPS); DatasheetVersion: SGLS119F; PackageVersion: 4040047-6/M, 06/2011; PackageReference: D16; PackageDescription: 16-Pin Plastic Small Outline, Body 9.9 x 3.9 mm, Pitch 1.27 mm; Supplier 1: Digi-Key; Supplier Part Number 1: ADS5402IZAY-ND; Supplier 2: Newark; Supplier Part Number 2: 73W9429; Supplier 3: Mouser; Supplier Part Number 3: 595-ADS5402IZAY; Digital Supply(Max)(V): 5.5; Digital Supply(Min)(V): 3; Eco-Plan: Green (RoHS & no Sb/Br); Mounting Technology: Surface Mount; Code_JEDEC: MS-012; ComponentLink1Description: Manufacturer URL; ComponentLink1URL: http://www.ti.com/; ComponentLink2Description: Datasheet; ComponentLink2URL: http://www.ti.com/general/docs/lit/getliterature.tsp?genericPartNumber=TLV2544Q&fileType=pdf; ComponentLink3Description: Package Specification; ComponentLink3URL: http://www.ti.com/litv/pdf/mpds178g
footprint TI-D16_N (SOIC, 16-Leads, Body 9.9x3.9mm, Pitch 1.27mm, IPC Medium Density)
footprint TI-D16_L (SOIC, 16-Leads, Body 9.9x3.9mm, Pitch 1.27mm, IPC High Density)
footprint TI-D16_M (SOIC, 16-Leads, Body 9.9x3.9mm, Pitch 1.27mm, IPC Low Density)
pins: 1 SDO (hiz) "The 3-state serial output for the A/D conversion result.", 2 SDI (in) "Serial data input.", 3 SCLK (in) "Input serial clock.", 4 EOC/(~{INT}) (out) "End of conversion or interrupt to host processor.", 5 VCC (power) "Positive supply voltage.", 6 A0 (in) "Analog signal inputs.", 7 A1 (in) "Analog signal inputs.", 8 A2 (in) "Analog signal inputs.", 9 A3 (in) "Analog signal inputs.", 10 ~{CSTART} (in) "This terminal controls the start of sampling of the analog input from a selected multiplex channel.", 11 GND (power) "Ground return for the internal circuitry.", 12 ~{PWDN} (in) "Both analog and reference circuits are powered down when this pin is at logic zero.", 13 FS (in) "DSP frame sync input. Indication of the start of a serial data frame in or out of the device.", 14 REFM (in) "External reference input or internal reference decoupling.", 15 REFP (in) "External reference input or internal reference decoupling.", 16 ~{CS} (in) "Chip select."

## TLV2545CDGK
designator U?
12-Bit, 200 kSPS ADC, Serial Out, TMS320 Compatible (up to 10 MHz), Single Channel Pseudo-Differential, 0 to 70 degC, 8-pin SOP (DGK8), Green (RoHS & no Sb/Br); Manufacturer: Texas Instruments; PartNumber: TLV2545CDGK; # Input Channels: 1; Analog Voltage AV/DD(Max)(V): 5.5; Analog Voltage AV/DD(Min)(V): 2.7; Architecture: SAR; ENOB(Bits): 11.8; Interface: Serial SPI; Resolution(Bits): 12; Sample Rate (max)(SPS): 200k; SFDR(dB): 84; SINAD(dB): 72; SubFamily: Precision ADC (<=10MSPS); DatasheetVersion: SLAS245E; PackageVersion: 4073329/E, 05/2006; PackageReference: DGK8; PackageDescription: 8-Pin Thin Small Outline, Body 3 x 3 mm, Pitch 0.65 mm; Supplier 1: Digi-Key; Supplier Part Number 1: 296-34884-2-ND; Supplier 2: Digi-Key; Supplier Part Number 2: 296-34884-1-ND; Supplier 3: Digi-Key; Supplier Part Number 3: 296-34884-6-ND; Supplier 4: Newark; Supplier Part Number 4: 27W9302; Supplier 5: Mouser; Supplier Part Number 5: 595-ADS131E06IPAGR; Digital Supply(Max)(V): 5.5; Digital Supply(Min)(V): 2.7; Eco-Plan: Green (RoHS & no Sb/Br); INL(Max)(+/-LSB): 1; Mounting Technology: Surface Mount; Code_JEDEC: MO-187; ComponentLink1Description: Manufacturer URL; ComponentLink1URL: http://www.ti.com/; ComponentLink2Description: Datasheet; ComponentLink2URL: http://www.ti.com/general/docs/lit/getliterature.tsp?genericPartNumber=TLV2545&fileType=pdf; ComponentLink3Description: Package Specification; ComponentLink3URL: http://www.ti.com/litv/pdf/mpds028d
footprint TI-DGK8_N (SOP, 8-Leads, Body 3x3mm, Pitch 0.65mm, IPC Medium Density)
footprint TI-DGK8_L (SOP, 8-Leads, Body 3x3mm, Pitch 0.65mm, IPC High Density)
footprint TI-DGK8_M (SOP, 8-Leads, Body 3x3mm, Pitch 0.65mm, IPC Low Density)
pins: 1 ~{CS} (in) "Chip select. A high-to-low transition on C\S\ removes SDO from 3-state within a maximum delay time. This pin can be connected to the frame sync of a DSP using a dedicated serial port.", 2 VREF (in) "External reference input.", 3 GND (power) "Ground return for the internal circuitry. Unless otherwise noted, all voltage measurements are with respect to GND.", 4 AIN+ (in) "Positive input for TLV2545.", 5 AIN- (in) "Inverted input for TLV2545.", 6 VDD (power) "Positive supply voltage.", 7 SCLK (in) "Output serial clock. This terminal receives the serial SCLK from the host processor.", 8 SDO (hiz) "The 3-state serial output for the A/D conversion result. SDO is kept in the high-impedance state when C\S\ is high and presents output data after the C\S\ falling edge until the LSB is presented. The output format is MSB (See Datasheet)"

## TLV2545CDGKG4
designator U?
12-Bit, 200 kSPS ADC, Serial Out, TMS320 Compatible (up to 10 MHz), Single Channel Pseudo-Differential, 0 to 70 degC, 8-pin SOP (DGK8), Green (RoHS & no Sb/Br); Manufacturer: Texas Instruments; PartNumber: TLV2545CDGKG4; # Input Channels: 1; Analog Voltage AV/DD(Max)(V): 5.5; Analog Voltage AV/DD(Min)(V): 2.7; Architecture: SAR; ENOB(Bits): 11.8; Interface: Serial SPI; Resolution(Bits): 12; Sample Rate (max)(SPS): 200k; SFDR(dB): 84; SINAD(dB): 72; SubFamily: Precision ADC (<=10MSPS); DatasheetVersion: SLAS245E; PackageVersion: 4073329/E, 05/2006; PackageReference: DGK8; PackageDescription: 8-Pin Thin Small Outline, Body 3 x 3 mm, Pitch 0.65 mm; Supplier 1: Digi-Key; Supplier Part Number 1: ADS5401IZAY-ND; Supplier 2: Newark; Supplier Part Number 2: 87W7684; Supplier 3: Mouser; Supplier Part Number 3: 595-ADS5401IZAY; Digital Supply(Max)(V): 5.5; Digital Supply(Min)(V): 2.7; Eco-Plan: Green (RoHS & no Sb/Br); INL(Max)(+/-LSB): 1; Mounting Technology: Surface Mount; Code_JEDEC: MO-187; ComponentLink1Description: Manufacturer URL; ComponentLink1URL: http://www.ti.com/; ComponentLink2Description: Datasheet; ComponentLink2URL: http://www.ti.com/general/docs/lit/getliterature.tsp?genericPartNumber=TLV2545&fileType=pdf; ComponentLink3Description: Package Specification; ComponentLink3URL: http://www.ti.com/litv/pdf/mpds028d
footprint TI-DGK8_N (SOP, 8-Leads, Body 3x3mm, Pitch 0.65mm, IPC Medium Density)
footprint TI-DGK8_L (SOP, 8-Leads, Body 3x3mm, Pitch 0.65mm, IPC High Density)
footprint TI-DGK8_M (SOP, 8-Leads, Body 3x3mm, Pitch 0.65mm, IPC Low Density)
pins: 1 ~{CS} (in) "Chip select. A high-to-low transition on C\S\ removes SDO from 3-state within a maximum delay time. This pin can be connected to the frame sync of a DSP using a dedicated serial port.", 2 VREF (in) "External reference input.", 3 GND (power) "Ground return for the internal circuitry. Unless otherwise noted, all voltage measurements are with respect to GND.", 4 AIN+ (in) "Positive input for TLV2545.", 5 AIN- (in) "Inverted input for TLV2545.", 6 VDD (power) "Positive supply voltage.", 7 SCLK (in) "Output serial clock. This terminal receives the serial SCLK from the host processor.", 8 SDO (hiz) "The 3-state serial output for the A/D conversion result. SDO is kept in the high-impedance state when C\S\ is high and presents output data after the C\S\ falling edge until the LSB is presented. The output format is MSB (See Datasheet)"

## TLV2545ID
designator U?
12-Bit, 200 kSPS ADC, Serial Out, TMS320 Compatible (up to 10 MHz), Single Channel Pseudo-Differential, -40 to 85 degC, 8-pin SOIC (D8), Green (RoHS & no Sb/Br); Manufacturer: Texas Instruments; PartNumber: TLV2545ID; # Input Channels: 1; Analog Voltage AV/DD(Max)(V): 5.5; Analog Voltage AV/DD(Min)(V): 2.7; Architecture: SAR; ENOB(Bits): 11.8; Interface: Serial SPI; Resolution(Bits): 12; Sample Rate (max)(SPS): 200k; SFDR(dB): 84; SINAD(dB): 72; SubFamily: Precision ADC (<=10MSPS); DatasheetVersion: SLAS245E; PackageVersion: 4040047-3/M, 06/2011; PackageReference: D8; PackageDescription: 8-Pin Plastic Small Outline, Body 4.9 x 3.9 mm, Pitch 1.27 mm; Supplier 1: Digi-Key; Supplier Part Number 1: ADS5403IZAY-ND; Supplier 2: Newark; Supplier Part Number 2: 73W9432; Supplier 3: Mouser; Supplier Part Number 3: 595-ADS5403IZAY; Digital Supply(Max)(V): 5.5; Digital Supply(Min)(V): 2.7; Eco-Plan: Green (RoHS & no Sb/Br); INL(Max)(+/-LSB): 1; Mounting Technology: Surface Mount; Code_JEDEC: MS-012; ComponentLink1Description: Manufacturer URL; ComponentLink1URL: http://www.ti.com/; ComponentLink2Description: Datasheet; ComponentLink2URL: http://www.ti.com/general/docs/lit/getliterature.tsp?genericPartNumber=TLV2545&fileType=pdf; ComponentLink3Description: Package Specification; ComponentLink3URL: http://www.ti.com/litv/pdf/msoi002j
footprint TI-D8_N (SOIC, 8-Leads, Body 4.9x3.9mm, Pitch 1.27mm, IPC Medium Density)
footprint TI-D8_L (SOIC, 8-Leads, Body 4.9x3.9mm, Pitch 1.27mm, IPC High Density)
footprint TI-D8_M (SOIC, 8-Leads, Body 4.9x3.9mm, Pitch 1.27mm, IPC Low Density)
pins: 1 ~{CS} (in) "Chip select. A high-to-low transition on C\S\ removes SDO from 3-state within a maximum delay time. This pin can be connected to the FS output from a DSP on a dedicated serial port", 2 VREF (in) "External reference input", 3 GND (power) "Ground return for the internal circuitry. Unless otherwise noted, all voltage measurements are with respect to GND.", 4 AIN(+) (in) "Positive input", 5 AIN(-) (in) "Inverted input", 6 VDD (power) "Positive supply voltage", 7 SCLK (in) "Output serial clock. This terminal receives the serial SCLK from the host processor", 8 SDO (hiz) "The 3-state serial output for the A/D conversion result. SDO is kept in the high-impedance state when C\S\ is high and presents output data after the C\S\ falling edge until the LSB is presented. The output format is MSB (See Datasheet)"

## TLV2545IDG4
designator U?
12-Bit, 200 kSPS ADC, Serial Out, TMS320 Compatible (up to 10 MHz), Single Channel Pseudo-Differential, -40 to 85 degC, 8-pin SOIC (D8), Green (RoHS & no Sb/Br); Manufacturer: Texas Instruments; PartNumber: TLV2545IDG4; # Input Channels: 1; Analog Voltage AV/DD(Max)(V): 5.5; Analog Voltage AV/DD(Min)(V): 2.7; Architecture: SAR; ENOB(Bits): 11.8; Interface: Serial SPI; Resolution(Bits): 12; Sample Rate (max)(SPS): 200k; SFDR(dB): 84; SINAD(dB): 72; SubFamily: Precision ADC (<=10MSPS); DatasheetVersion: SLAS245E; PackageVersion: 4040047-3/M, 06/2011; PackageReference: D8; PackageDescription: 8-Pin Plastic Small Outline, Body 4.9 x 3.9 mm, Pitch 1.27 mm; Supplier 1: Digi-Key; Supplier Part Number 1: LM97600CIUT/NOPB-ND; Supplier 2: Newark; Supplier Part Number 2: 27W9427; Supplier 3: Mouser; Supplier Part Number 3: 926-LM97600CIUT/NOPB; Digital Supply(Max)(V): 5.5; Digital Supply(Min)(V): 2.7; Eco-Plan: Green (RoHS & no Sb/Br); INL(Max)(+/-LSB): 1; Mounting Technology: Surface Mount; Code_JEDEC: MS-012; ComponentLink1Description: Manufacturer URL; ComponentLink1URL: http://www.ti.com/; ComponentLink2Description: Datasheet; ComponentLink2URL: http://www.ti.com/general/docs/lit/getliterature.tsp?genericPartNumber=TLV2545&fileType=pdf; ComponentLink3Description: Package Specification; ComponentLink3URL: http://www.ti.com/litv/pdf/msoi002j
footprint TI-D8_N (SOIC, 8-Leads, Body 4.9x3.9mm, Pitch 1.27mm, IPC Medium Density)
footprint TI-D8_L (SOIC, 8-Leads, Body 4.9x3.9mm, Pitch 1.27mm, IPC High Density)
footprint TI-D8_M (SOIC, 8-Leads, Body 4.9x3.9mm, Pitch 1.27mm, IPC Low Density)
pins: 1 ~{CS} (in) "Chip select. A high-to-low transition on C\S\ removes SDO from 3-state within a maximum delay time. This pin can be connected to the FS output from a DSP on a dedicated serial port", 2 VREF (in) "External reference input", 3 GND (power) "Ground return for the internal circuitry. Unless otherwise noted, all voltage measurements are with respect to GND.", 4 AIN(+) (in) "Positive input", 5 AIN(-) (in) "Inverted input", 6 VDD (power) "Positive supply voltage", 7 SCLK (in) "Output serial clock. This terminal receives the serial SCLK from the host processor", 8 SDO (hiz) "The 3-state serial output for the A/D conversion result. SDO is kept in the high-impedance state when C\S\ is high and presents output data after the C\S\ falling edge until the LSB is presented. The output format is MSB (See Datasheet)"

## TLV2545IDGK
designator U?
12-Bit, 200 kSPS ADC, Serial Out, TMS320 Compatible (up to 10 MHz), Single Channel Pseudo-Differential, -40 to 85 degC, 8-pin SOP (DGK8), Green (RoHS & no Sb/Br); Manufacturer: Texas Instruments; PartNumber: TLV2545IDGK; # Input Channels: 1; Analog Voltage AV/DD(Max)(V): 5.5; Analog Voltage AV/DD(Min)(V): 2.7; Architecture: SAR; ENOB(Bits): 11.8; Interface: Serial SPI; Resolution(Bits): 12; Sample Rate (max)(SPS): 200k; SFDR(dB): 84; SINAD(dB): 72; SubFamily: Precision ADC (<=10MSPS); DatasheetVersion: SLAS245E; PackageVersion: 4073329/E, 05/2006; PackageReference: DGK8; PackageDescription: 8-Pin Thin Small Outline, Body 3 x 3 mm, Pitch 0.65 mm; Supplier 1: Digi-Key; Supplier Part Number 1: ADS1018IRUGR-ND; Supplier 2: Newark; Supplier Part Number 2: 55W5778; Supplier 3: Mouser; Supplier Part Number 3: 595-ADS1018IRUGR; Digital Supply(Max)(V): 5.5; Digital Supply(Min)(V): 2.7; Eco-Plan: Green (RoHS & no Sb/Br); INL(Max)(+/-LSB): 1; Mounting Technology: Surface Mount; Code_JEDEC: MO-187; ComponentLink1Description: Manufacturer URL; ComponentLink1URL: http://www.ti.com/; ComponentLink2Description: Datasheet; ComponentLink2URL: http://www.ti.com/general/docs/lit/getliterature.tsp?genericPartNumber=TLV2545&fileType=pdf; ComponentLink3Description: Package Specification; ComponentLink3URL: http://www.ti.com/litv/pdf/mpds028d
footprint TI-DGK8_N (SOP, 8-Leads, Body 3x3mm, Pitch 0.65mm, IPC Medium Density)
footprint TI-DGK8_L (SOP, 8-Leads, Body 3x3mm, Pitch 0.65mm, IPC High Density)
footprint TI-DGK8_M (SOP, 8-Leads, Body 3x3mm, Pitch 0.65mm, IPC Low Density)
pins: 1 ~{CS} (in) "Chip select. A high-to-low transition on C\S\ removes SDO from 3-state within a maximum delay time. This pin can be connected to the frame sync of a DSP using a dedicated serial port.", 2 VREF (in) "External reference input.", 3 GND (power) "Ground return for the internal circuitry. Unless otherwise noted, all voltage measurements are with respect to GND.", 4 AIN+ (in) "Positive input for TLV2545.", 5 AIN- (in) "Inverted input for TLV2545.", 6 VDD (power) "Positive supply voltage.", 7 SCLK (in) "Output serial clock. This terminal receives the serial SCLK from the host processor.", 8 SDO (hiz) "The 3-state serial output for the A/D conversion result. SDO is kept in the high-impedance state when C\S\ is high and presents output data after the C\S\ falling edge until the LSB is presented. The output format is MSB (See Datasheet)"

## TLV2545IDGKG4
designator U?
12-Bit, 200 kSPS ADC, Serial Out, TMS320 Compatible (up to 10 MHz), Single Channel Pseudo-Differential, -40 to 85 degC, 8-pin SOP (DGK8), Green (RoHS & no Sb/Br); Manufacturer: Texas Instruments; PartNumber: TLV2545IDGKG4; # Input Channels: 1; Analog Voltage AV/DD(Max)(V): 5.5; Analog Voltage AV/DD(Min)(V): 2.7; Architecture: SAR; ENOB(Bits): 11.8; Interface: Serial SPI; Resolution(Bits): 12; Sample Rate (max)(SPS): 200k; SFDR(dB): 84; SINAD(dB): 72; SubFamily: Precision ADC (<=10MSPS); DatasheetVersion: SLAS245E; PackageVersion: 4073329/E, 05/2006; PackageReference: DGK8; PackageDescription: 8-Pin Thin Small Outline, Body 3 x 3 mm, Pitch 0.65 mm; Supplier 1: Digi-Key; Supplier Part Number 1: ADC12081CIVTX/NOPB-ND; Supplier 2: Mouser; Supplier Part Number 2: 926-ADC12081CIVTXNPB; Digital Supply(Max)(V): 5.5; Digital Supply(Min)(V): 2.7; Eco-Plan: Green (RoHS & no Sb/Br); INL(Max)(+/-LSB): 1; Mounting Technology: Surface Mount; Code_JEDEC: MO-187; ComponentLink1Description: Manufacturer URL; ComponentLink1URL: http://www.ti.com/; ComponentLink2Description: Datasheet; ComponentLink2URL: http://www.ti.com/general/docs/lit/getliterature.tsp?genericPartNumber=TLV2545&fileType=pdf; ComponentLink3Description: Package Specification; ComponentLink3URL: http://www.ti.com/litv/pdf/mpds028d
footprint TI-DGK8_N (SOP, 8-Leads, Body 3x3mm, Pitch 0.65mm, IPC Medium Density)
footprint TI-DGK8_L (SOP, 8-Leads, Body 3x3mm, Pitch 0.65mm, IPC High Density)
footprint TI-DGK8_M (SOP, 8-Leads, Body 3x3mm, Pitch 0.65mm, IPC Low Density)
pins: 1 ~{CS} (in) "Chip select. A high-to-low transition on C\S\ removes SDO from 3-state within a maximum delay time. This pin can be connected to the frame sync of a DSP using a dedicated serial port.", 2 VREF (in) "External reference input.", 3 GND (power) "Ground return for the internal circuitry. Unless otherwise noted, all voltage measurements are with respect to GND.", 4 AIN+ (in) "Positive input for TLV2545.", 5 AIN- (in) "Inverted input for TLV2545.", 6 VDD (power) "Positive supply voltage.", 7 SCLK (in) "Output serial clock. This terminal receives the serial SCLK from the host processor.", 8 SDO (hiz) "The 3-state serial output for the A/D conversion result. SDO is kept in the high-impedance state when C\S\ is high and presents output data after the C\S\ falling edge until the LSB is presented. The output format is MSB (See Datasheet)"